# EAGLE library part 615016240521 (library Eagle_WR-MJ (rev23b))
WR-MJ Modular Jack Horizontal Shielded Dual Stacked w. EMI Panel Finger 8P8C Tab Up&Down KIND PROPERTIES Quality Class:500 Mating cycles General Information Operating Temperature:-40 up to +85 °C Compliance:RoHS Electrical Properties IR 1:1.5 A Working Voltage:120 V (AC) Withstanding Voltage:1000 V (AC) Contact Resistance:20 mΩ RISO:500 MΩ Material Properties Insulator Material:PBT Insulator Flammability Rating:UL94 V-0 Color:Black Contact Material:Copper Alloy Contact Plating:Selective Gold Contact Type:Stamped Shielding Material:Bronze Shielding Plating:Nickel Packaging Properties Packaging:Tray <https://www.we-online.com/catalog/media/o33142v209%20Family_WR-MJ_615016240521.jpg> Details see: https://www.we-online.com/catalog/en/MJ_HORIZONTAL_SHIELDED_DUAL_STACKED_PORT_EMI_FINGER_8P8C_TAB_UP_DOWN/ Updated by Yingchun,Shan 2020-01-02 2020(C) Würth Elektronik
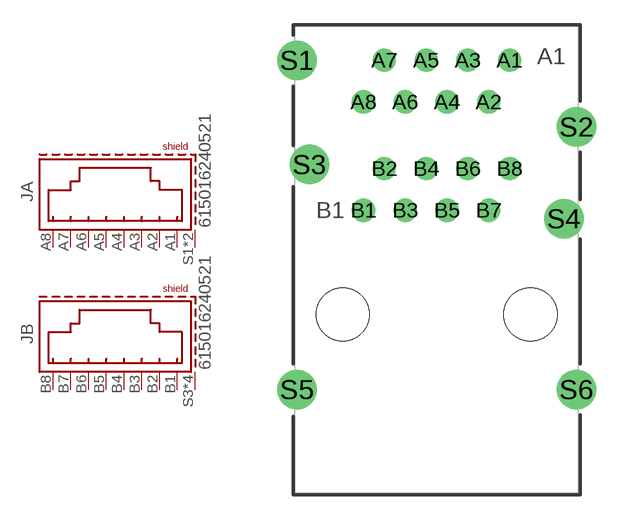
[diagram p35: symbol with the pads of 615016240521; footprint 615016240521]

Designator prefix J; gates A=8P8C_S B=8P8C_S

## 615016240521 (DATASHEET-URL: https://www.we-online.com/redexpert/spec/615016240521?ae; MOUNT: THT; PART-NUMBER: 615016240521; TYPE: Horizontal; VALUE: 615016240521; XPXC: 8P8C)  [615016240521]
A1  A:1  pas
A2  A:2  pas
A3  A:3  pas
A4  A:4  pas
A5  A:5  pas
A6  A:6  pas
A7  A:7  pas
A8  A:8  pas
B1  B:1  pas
B2  B:2  pas
B3  B:3  pas
B4  B:4  pas
B5  B:5  pas
B6  B:6  pas
B7  B:7  pas
B8  B:8  pas
S1  A:SHIELD  pas
S2  A:SHIELD  pas
S3  B:SHIELD  pas
S4  B:SHIELD  pas
S5  B:SHIELD  pas
S6  B:SHIELD  pas

## Footprint 615016240521 (pad centres in mm)
WR-MJ Horizontal Shielded Dual Stacked Port with EMI Panel Finger 8P8C Modular Jack Tab Up & Down, 16 Pins
drill 0.9: A1 4.445,12.155; A2 3.175,9.615; A3 1.905,12.155; A4 0.635,9.615; A5 -0.635,12.155; A6 -1.905,9.615; A7 -3.175,12.155; A8 -4.445,9.615; B1 -4.445,3.015; B2 -3.175,5.555; B3 -1.905,3.015; B4 -0.635,5.555; B5 0.635,3.015; B6 1.905,5.555; B7 3.175,3.015; B8 4.445,5.555
drill 1.6: S1 -8.505,12.155; S2 8.505,8.095; S3 -7.745,5.805; S4 7.745,2.505; S5 -8.505,-7.905; S6 8.505,-7.905
hole 3.25 at -5.715,-3.335
hole 3.25 at 5.715,-3.335